# Altium footprint library aiskylab-14Connectors-03USBConnectors.PcbLib: 15 footprints
Each footprint in its own frame and in the unit in brackets; x right, y up, seen from the top. Pads: shape width x height; smd on the part's side, far side on the other; paste and mask are expansions set on the pad; w line width, h text height; cw(c..) or ccw(c..) is an arc to the next point about the centre after c.
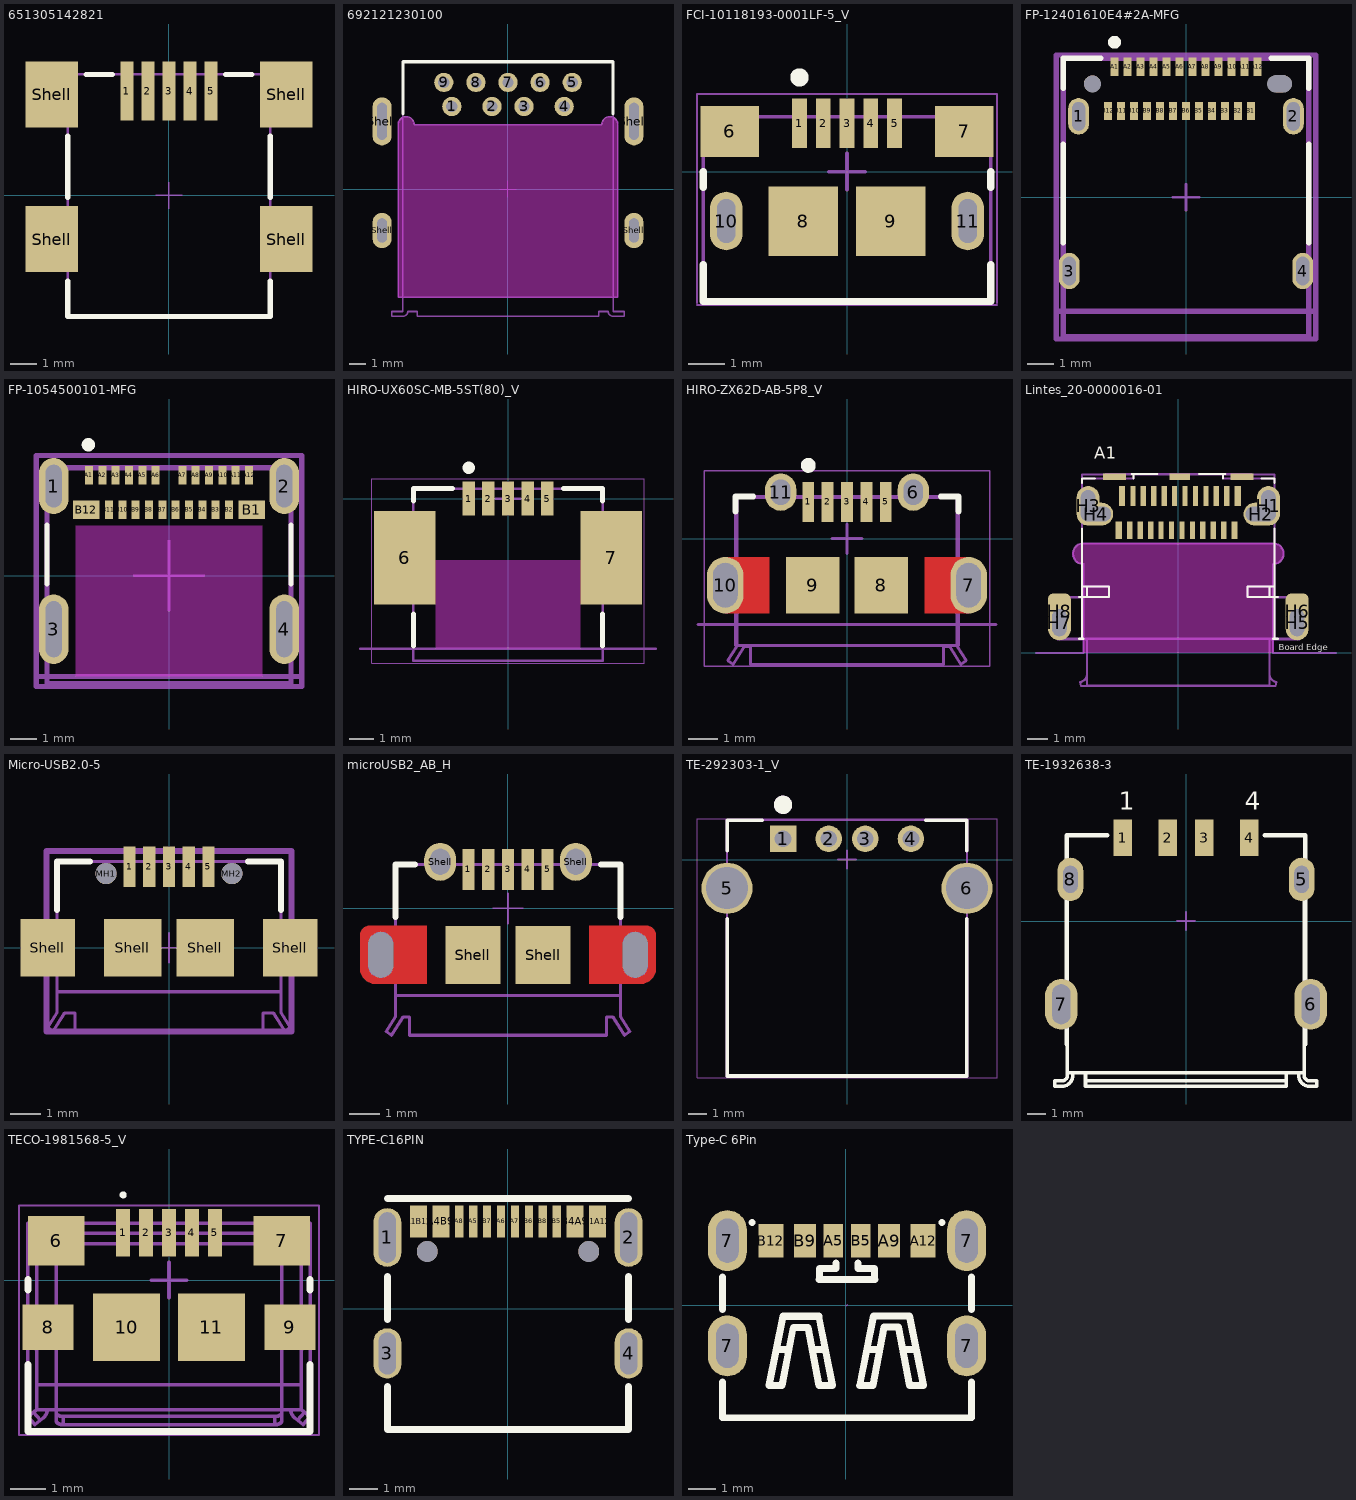
[diagram p0: the footprints below, top view; thin cyan lines are the x and y axes]

## 651305142821 [mm] "Mini USB 2.0 Type AB SMT Horizontal 5 Contacts"
height 4
pads (9):
  rect 0.5x2.25 smd: 1(-1.6,3.965) 2(-0.8,3.965) 3(0,3.965) 4(0.8,3.965) 5(1.6,3.965)
  rect 2x2.5 smd: Shell(-4.45,-1.66) Shell(-4.45,3.84) Shell(4.45,-1.66) Shell(4.45,3.84)
Top Overlay:
  lines w0.2: -3.85,-3.25 -3.85,-4.6 3.85,-4.6 3.85,-3.25 ; -3.85,-0.07 -3.85,2.25 ; -3.15,4.6 -2.15,4.6 ; 2.15,4.6 3.15,4.6 ; 3.85,-0.07 3.85,2.25
Top Designator:
  text ".Designator" at -7.618,-0.262 h1.52
Top Assembly:
  lines w0.1: -3.85,-4.6 -3.85,4.6 3.85,4.6 3.85,-4.6 -3.85,-4.6
Top Component Center:
  lines w0.05: -0.5,0 0.5,0 ; 0,-0.5 0,0.5
Top Component Outline:
  lines w0.1: -3.85,-4.6 -3.85,4.6 3.85,4.6 3.85,-4.6 -3.85,-4.6
3D body "651305142821.stp": height 4.1, standoff 0, extent -4.95,-4.6 4.95,4.8

## 692121230100 [mm] "USB 3.0 Type A Horizontal with Offset 1.04mm"
height 3.9
pads (13):
  round 1.2 hole 0.7: 1(-3.5,5.145) 2(-1,5.145) 3(1,5.145) 4(3.5,5.145) 5(4,6.645) 6(2,6.645) 7(0,6.645) 8(-2,6.645) 9(-4,6.645)
  oval 1.2x2.2 hole 0.6 slot 1.5 at 90 deg: Shell(-7.85,-2.585) Shell(7.85,-2.585)
  oval 1.2x3 hole 0.6 slot 2.3 at 90 deg: Shell(-7.85,4.215) Shell(7.85,4.215)
Top Overlay:
  lines w0.2: -6.55,4.685 -6.55,7.935 6.55,7.935 6.55,4.685
Keep-Out Layer:
  board cut-out: -6.85,-6.755 6.85,-6.755 6.85,4.015 6.85,4.115 6.774,4.298 6.633,4.439 6.449,4.515 6.251,4.515 6.067,4.439 5.926,4.298 5.85,4.115 5.85,4.015 -5.85,4.015 -5.85,4.115 -5.926,4.298 -6.067,4.439 -6.251,4.515 -6.449,4.515 -6.633,4.439 -6.774,4.298 -6.85,4.115 -6.85,4.015
Board:
  text "PCB Cutout Area" at -4.4,-1.3 h0.81
Top Assembly:
  lines w0.1: -7.25,-7.935 -6.56,-7.935 ccw(c-6.55,-7.635) -6.25,-7.635 -5.65,-7.635 -5.65,-7.935 5.65,-7.935 5.65,-7.635 6.25,-7.635 ccw(c6.55,-7.635) 6.56,-7.935 7.25,-7.935 7.25,-7.635 6.55,-7.635 6.55,7.935 -6.55,7.935 -6.55,-7.635 -7.25,-7.635 -7.25,-7.935 ; -6.85,-6.755 6.85,-6.755 6.85,4.015 ccw(c6.35,4.015) 5.85,4.015 -5.85,4.015 ccw(c-6.35,4.015) -6.85,4.015 -6.85,-6.755
Top Component Center:
  lines w0.05: -0.5,0 0.5,0 ; 0,-0.5 0,0.5
3D body "692121230100.stp": height 4.63, standoff -2.49, extent -8,-7.935 8,7.935

## FCI-10118193-0001LF-5_V [mm] "Micro, USB-B, 5-Leads, Body 7.86x5.05mm, Pitch 0.65 mm"
pads (11):
  rect 0.4x1.35 smd: 1(-1.3,1.325) 2(-0.65,1.325) 3(0,1.325) 4(0.65,1.325) 5(1.3,1.325)
  rect 1.6x1.4 smd: 6(-3.2,1.1) 7(3.2,1.1)
  rect 1.9x1.9 smd: 8(-1.2,-1.35) 9(1.2,-1.35)
  oval 0.9x1.6 hole 0.5 slot 1.2 at 90 deg: 10(-3.3,-1.35) 11(3.3,-1.35)
Top Overlay:
  circle w0.25: c-1.3,2.575 r0.125
  lines w0.2: -3.93,-2.537 -3.93,-3.55 3.93,-3.55 3.93,-2.537 ; -3.93,-0.428 -3.93,0 ; 3.93,-0.428 3.93,0
Top Designator:
  text ".Designator" at -7.618,-1.176 h1.52
Top Assembly:
  lines w0.1: -3.93,-3.55 3.93,-3.55 3.93,1.5 -3.93,1.5 -3.93,-3.55
Top Component Center:
  lines w0.1: -0.5,0 0.5,0 ; 0,-0.5 0,0.5
Bottom 3D Body:
  lines w0.05: -4.1,-3.65 4.1,-3.65 ; -4.1,-3.6 -4.1,2.125 4.1,2.125 4.1,-3.6
3D body "10118193-0001lfc.stp": height 2.83, standoff -0.77, extent -3.928,-4.16 3.929,1.5

## FP-12401610E4#2A-MFG [mm]
pads (30):
  rrect100% 0.8x1.4 hole 1.1 slot 0.5 at 0 deg paste-1000 mask+0: 1(-4.13,3.115) 2(4.13,3.115) 3(-4.49,-2.835) 4(4.49,-2.835)
  rect 0.3x0.7 smd paste+0 mask+0: A1(-2.75,5.025) A2(-2.25,5.025) A3(-1.75,5.025) A4(-1.25,5.025) A5(-0.75,5.025) A6(-0.25,5.025) A7(0.25,5.025) A8(0.75,5.025) A9(1.25,5.025) A10(1.75,5.025) A11(2.25,5.025) A12(2.75,5.025) B1(2.5,3.325) B2(2,3.325) B3(1.5,3.325) B4(1,3.325) B5(0.5,3.325) B6(0,3.325) B7(-0.5,3.325) B8(-1,3.325) B9(-1.5,3.325) B10(-2,3.325) B11(-2.5,3.325) B12(-3,3.325)
  round 0.65 hole 0.65 unplated paste-1000 mask+0: ""(-3.6,4.365)
  rrect100% 0.95x0.65 hole 0.65 slot 0.95 at 0 deg unplated paste-1000 mask+0: ""(3.6,4.365)
Top Overlay:
  circle w0.25: c-2.75,5.965 r0.125
  lines w0.2: -4.725,-1.76 -4.725,2.04 ; -4.725,4.19 -4.725,5.35 -3.275,5.35 ; 3.275,5.35 4.725,5.35 4.725,4.19 ; 4.725,-1.76 4.725,2.04
Top Designator:
  text ".Designator" at 0,0.012 h1
Top Assembly:
  lines w0.2: -4.99,-5.45 -4.99,5.475 4.99,5.475 4.99,-5.45 -4.99,-5.45
Top Component Center:
  lines w0.1: -0.5,0 0.5,0 ; 0,-0.5 0,0.5
Top Component Outline:
  lines w0.2: -4.99,-4.385 4.99,-4.385 ; -4.725,-5.35 -4.725,5.35 4.725,5.35 4.725,-5.35 -4.725,-5.35
Top 3D Body:
  lines w0.2: -4.99,-5.45 -4.99,5.475 4.99,5.475 4.99,-5.45 -4.99,-5.45
3D body "Conn_Amphenol_12401610E4#2A_eec.STEP": height 3.43, standoff -1.3, extent -4.6,-5.225 4.6,5.325

## FP-1054500101-MFG [mm]
pads (28):
  rrect100% 1.1x2.1 hole 1.6 slot 0.6 at 0 deg paste-1000 mask+0: 1(-4.32,3.36) 2(4.32,3.36)
  rrect100% 1.1x2.6 hole 2.1 slot 0.6 at 0 deg paste-1000 mask+0: 3(-4.32,-2) 4(4.32,-2)
  rect 0.3x0.7 smd paste+0 mask+0: A1(-3,3.77) A2(-2.5,3.77) A3(-2,3.77) A4(-1.5,3.77) A5(-1,3.77) A6(-0.5,3.77) A7(0.5,3.77) A8(1,3.77) A9(1.5,3.77) A10(2,3.77) A11(2.5,3.77) A12(3,3.77) B2(2.25,2.47) B3(1.75,2.47) B4(1.25,2.47) B5(0.75,2.47) B6(0.25,2.47) B7(-0.25,2.47) B8(-0.75,2.47) B9(-1.25,2.47) B10(-1.75,2.47) B11(-2.25,2.47)
  rect 1x0.7 smd paste+0 mask+0: B1(3.1,2.47) B12(-3.1,2.47)
Top Overlay:
  circle w0.25: c-3.02,4.91 r0.125
  lines w0.2: -4.57,-0.3 -4.57,1.9 ; 4.57,-0.3 4.57,1.9
Keep-Out Layer:
  rectangle: -3.5,-3.77 3.5,1.88
Top Assembly:
  lines w0.2: -4.97,-4.15 4.97,-4.15 4.97,4.51 -4.97,4.51 -4.97,-4.15
  text ".Designator" at 0,0.368 h1
Top Component Center:
  lines w0.1: -1.299,0 1.299,0 ; 0,-1.299 0,1.299
Top Component Outline:
  lines w0.2: -4.97,-3.77 4.97,-3.77 ; -4.97,-4.15 4.97,-4.15 4.97,4.51 -4.97,4.51 -4.97,-4.15 ; -4.57,-4.05 4.57,-4.05 4.57,4.05 -4.57,4.05 -4.57,-4.05

## HIRO-UX60SC-MB-5ST(80)_V [mm] "SMD, 5-Leads, Body 7.7x7mm, Pitch 0.8mm"
height 3.95
pads (7):
  rect 0.5x1.4 smd: 1(-1.6,0) 2(-0.8,0) 3(0,0) 4(0.8,0) 5(1.6,0)
  rect 2.5x3.8 smd: 6(-4.2,-2.4) 7(4.2,-2.4)
Top Layer keep-out:
  rectangle: -2.95,-6.1 2.95,-2.5
Top Overlay:
  circle w0.25: c-1.6,1.25 r0.125
  lines w0.2: -3.85,-6 -3.85,-4.7 ; -3.85,-0.1 -3.85,0.4 -2.25,0.4 ; 2.25,0.4 3.85,0.4 3.85,-0.1 ; 3.85,-6 3.85,-4.7
Board:
  lines w0.1: -6,-6.1 6,-6.1
  text "PCB EDGE" at -8.636,-6.096 h0.3
Top Designator:
  text ".Designator" at -8.961,-3.12 h1.52
Top Assembly:
  lines w0.1: -3.85,-6.6 -3.85,0.4 3.85,0.4 3.85,-6.6 -3.85,-6.6
Top Component Center:
  lines w0.1: -0.5,0 0.5,0 ; 0,-0.5 0,0.5
Top Component Outline:
  lines w0.05: -5.55,-6.7 -5.55,0.8 5.55,0.8 5.55,-6.7 -5.55,-6.7
3D body "UX60SC-MB-5ST.stp": height 3.95, standoff 0, extent -4.9,-6.619 4.9,0.381

## HIRO-ZX62D-AB-5P8_V [mm] "USB Micro-AB Connector, 5-Leads, Pitch 0.65mm"
height 2.8
pads (11):
  rect 0.4x1.35 smd: 1(-1.3,1.238) 2(-0.65,1.238) 3(0,1.238) 4(0.65,1.238) 5(1.3,1.238)
  oval 1.05x1.25 hole 0.65 slot 0.85 at 90 deg: 6(2.225,1.563) 11(-2.225,1.563)
  oval 1.225x1.9 hole 0.825 slot 1.5 at 90 deg: 7(4.088,-1.562) 10(-4.088,-1.562)
  rect 1.8x1.9 smd: 8(1.15,-1.562) 9(-1.15,-1.562)
Top Layer:
  rectangle: 2.6,-2.512 4.088,-0.612
  rectangle: -4.088,-2.512 -2.6,-0.612
Top Overlay:
  circle w0.25: c-1.3,2.463 r0.125
  lines w0.2: -3.75,0.91 -3.75,1.412 -3.149,1.412 ; 3.149,1.412 3.75,1.412 3.75,0.91
Board:
  lines w0.1: -5,-2.887 5,-2.887
  text "board edge" at -7.112,-2.921 h0.2
Top Designator:
  text ".Designator" at -8.674,-1.307 h1.52
Top Assembly:
  lines w0.1: -4,-4.093 -3.825,-4.218 -3.45,-3.618 -3.24,-3.618 -3.24,-4.218 3.24,-4.218 3.24,-3.618 3.45,-3.618 3.825,-4.218 4,-4.093 3.7,-3.618 3.7,1.392 -3.7,1.392 -3.7,-3.618 -4,-4.093
Top Component Center:
  lines w0.1: -0.5,0 0.5,0 ; 0,-0.5 0,0.5
Top Component Outline:
  lines w0.05: -4.8,2.288 4.8,2.288 4.8,-4.286 -4.8,-4.286 -4.8,2.288
  lines w0.1: -0.5,0 0.5,0 ; 0,-0.5 0,0.5
Top 3D Body:
  lines w0.1: -3.75,-3.588 -3.75,1.413 3.75,1.413 3.75,-3.587 -3.75,-3.588
3D body: height 0.25, standoff 0, extent -0.8,0.542 -0.493,1.685
3D body: height 0.25, standoff 0, extent -1.45,0.542 -1.143,1.685
3D body: height 0.25, standoff 0, extent 1.15,0.542 1.457,1.685
3D body: height 0.25, standoff 0, extent 0.5,0.542 0.807,1.685
3D body: height 1.79, standoff 0.71, extent -4,-4.187 -3.5,-3.586
3D body: height 1.79, standoff 0.71, extent 3.5,-4.187 4,-3.586
3D body: height 0.55, standoff -0.6, extent -4.373,-1.916 -3.603,-1.065
3D body: height 0.55, standoff -0.6, extent 3.603,-1.916 4.373,-1.066
3D body: height 2.5, standoff 2.25, extent -0.967,1.262 0.972,1.862
3D body: height 0.25, standoff 0, extent -0.15,0.542 0.157,1.685
3D body: height 2.25, standoff -0.85, extent -2.379,1.263 2.387,1.863
3D body: height 2.5, standoff -0.01, extent -3.754,0.213 3.757,1.413
3D body: height 0.25, standoff 0, extent -3.25,0.212 3.25,0.543
3D body: height 0.25, standoff -0.32, extent -3.05,-4.186 3.05,-3.586
3D body: height 2.83, standoff 2.25, extent -3.05,-4.186 3.05,-3.586
3D body: height 2.51, standoff -0.01, extent -3.756,-3.588 3.757,0.212

## Lintes_20-0000016-01 [mm]
pads (35):
  rect 1.1x0.3 smd: 1(3.05,8.44) 3(-3.05,8.44)
  rect 1x0.3 smd: 2(0.07,8.44)
  rect 0.3x0.95 smd: A1(-2.7,7.525) A12(2.85,7.525)
  rect 0.25x0.95 smd: A2(-2.175,7.525) A3(-1.675,7.525) A4(-1.175,7.525) A5(-0.675,7.525) A6(-0.175,7.525) A7(0.325,7.525) A8(0.825,7.525) A9(1.325,7.525) A10(1.825,7.525) A11(2.325,7.525)
  rect 0.3x0.85 smd: B1(2.7,5.875) B12(-2.85,5.875)
  rect 0.25x0.85 smd: B2(2.175,5.875) B3(1.675,5.875) B4(1.175,5.875) B5(0.675,5.875) B6(0.175,5.875) B7(-0.325,5.875) B8(-0.825,5.875) B9(-1.325,5.875) B10(-1.825,5.875) B11(-2.325,5.875)
  oval 1.1x1.9 hole 0.7 slot 1.5 at 90 deg: H1(4.323,7.05) H3(-4.323,7.05)
  oval 1.65x1.1 hole 0.7 slot 1.45 at 0 deg: H2(3.949,6.65) H4(-3.949,6.65)
  oval 1.1x1.7 hole 0.7 slot 1.3 at 90 deg: H5(5.7,1.45) H7(-5.7,1.45)
  rrect50% 1.1x1.7 all layers, no hole: H6(5.7,2) H8(-5.7,2)
Top Overlay:
  lines w0.1: -4.77,0.675 -4.62,0.675 ; -4.77,2.675 -4.62,2.675 ; -4.62,2.65 -4.62,5.95 ; -4.62,3.175 -3.32,3.175 -3.32,2.675 -4.62,2.675 ; -4.62,8.15 -4.62,8.365 -4,8.365 ; -4.55,0.675 -4.62,0.675 ; -4.37,2.675 -4.37,3.175 ; -2.252,8.575 -2.14,8.575 ; -2.14,8.365 -2.14,8.575 ; -1,8.575 -2.14,8.575 ; 1,8.575 2.14,8.575 ; 2.14,8.365 2.14,8.575 ; 2.252,8.575 2.14,8.575 ; 4,8.365 4.62,8.365 4.62,8.15 ; 4.37,2.675 4.37,3.175 ; 4.55,0.675 4.62,0.675 ; 4.62,2.65 4.62,5.95 ; 4.62,3.175 3.32,3.175 3.32,2.675 4.62,2.675 ; 4.77,0.675 4.62,0.675 ; 4.77,2.675 4.62,2.675 ; -4.62,0.675 -4.62,2.675 ; 4.62,0.675 4.62,2.675
  text ".Designator" at -2.225,3.95 h1.02
  text "Board Edge" at 4.824,0.028 h0.5
  text "A1" at -4.039,9.119 h1
Keep-Out Layer:
  board cut-out: -4.55,0 -4.55,4.25 -4.649,4.25 -4.833,4.326 -4.974,4.467 -5.05,4.651 -5.05,4.849 -4.974,5.033 -4.833,5.174 -4.649,5.25 -4.55,5.25 4.55,5.25 4.649,5.25 4.833,5.174 4.974,5.033 5.05,4.849 5.05,4.651 4.974,4.467 4.833,4.326 4.649,4.25 4.55,4.25 4.55,0
Board:
  lines w0.1: -6.823,0 -4.55,0 -4.55,4.25 cw(c-4.55,4.75) -4.55,5.25 4.55,5.25 cw(c4.55,4.75) 4.55,4.25 4.55,0 7.562,0
Top Assembly:
  lines w0.1: -4.37,0.675 -4.37,-1.573 -3.17,-1.573 3.17,-1.573 4.37,-1.573 4.37,0.675 ; -4.37,2.675 -4.37,3.175 ; -3.374,8.365 -3.374,8.375 -3.461,8.375 -3.5,8.375 -3.5,8.575 -3.461,8.575 -3.124,8.575 -3.051,8.575 -2.252,8.575 -2.14,8.575 ; 3.374,8.365 3.374,8.375 3.461,8.375 3.5,8.375 3.5,8.575 3.461,8.575 3.124,8.575 3.051,8.575 2.252,8.575 2.14,8.575 ; 4.37,2.675 4.37,3.175 ; 4.62,2.65 4.62,8.55 0,8.55 -4.62,8.55 -4.62,2.65 -5.8,2.65 -5.8,0.65 -4.37,0.65 -4.37,-1.008 cw(c-4.77,-1.008) -4.703,-1.403 -4.67,-1.6 -3.17,-1.6 0,-1.6 3.17,-1.6 4.67,-1.6 4.703,-1.403 cw(c4.77,-1.008) 4.37,-1.008 4.37,0.65 5.8,0.65 ; 4.636,2.65 5.816,2.65 5.816,0.65 ; -4.62,0.675 -3.32,0.675 3.32,0.675 4.62,0.675 ; -4.62,0.675 -4.62,2.675 ; -4.62,0.675 -4.77,0.675 -5.5,0.675 -5.8,0.675 -5.8,2.675 -5.5,2.675 -4.77,2.675 -4.62,2.675 ; -4.62,2.675 -3.32,2.675 -3.32,3.175 -4.62,3.175 -4.62,8.365 -3.32,8.365 -2.14,8.365 -2.14,8.575 ; -2.14,8.575 2.14,8.575 ; 2.14,8.575 2.14,8.365 3.32,8.365 4.62,8.365 4.62,3.175 3.32,3.175 3.32,2.675 4.62,2.675 ; 4.62,0.675 4.62,2.675 ; 4.62,0.675 4.77,0.675 5.5,0.675 5.8,0.675 5.8,2.675 5.5,2.675 4.77,2.675 4.62,2.675
Top 3D Body:
  lines w0.1: -4.37,0.675 -4.37,-1.573 -3.17,-1.573 3.17,-1.573 4.37,-1.573 4.37,0.675 ; -4.37,2.675 -4.37,3.175 ; -3.374,8.365 -3.374,8.375 -3.461,8.375 -3.5,8.375 -3.5,8.575 -3.461,8.575 -3.124,8.575 -3.051,8.575 -2.252,8.575 -2.14,8.575 ; 3.374,8.365 3.374,8.375 3.461,8.375 3.5,8.375 3.5,8.575 3.461,8.575 3.124,8.575 3.051,8.575 2.252,8.575 2.14,8.575 ; 4.37,2.675 4.37,3.175 ; 4.62,2.65 4.62,8.55 0,8.55 -4.62,8.55 -4.62,2.65 -5.8,2.65 -5.8,0.65 -4.37,0.65 -4.37,-1.008 cw(c-4.77,-1.008) -4.703,-1.403 -4.67,-1.6 -3.17,-1.6 0,-1.6 3.17,-1.6 4.67,-1.6 4.703,-1.403 cw(c4.77,-1.008) 4.37,-1.008 4.37,0.65 5.8,0.65 ; 4.636,2.65 5.816,2.65 5.816,0.65 ; -4.62,0.675 -4.77,0.675 -5.5,0.675 -5.8,0.675 -5.8,2.675 -5.5,2.675 -4.77,2.675 -4.62,2.675 ; -4.62,0.675 -4.62,2.675 ; -4.62,0.675 -3.32,0.675 3.32,0.675 4.62,0.675 ; -4.62,2.675 -3.32,2.675 -3.32,3.175 -4.62,3.175 -4.62,8.365 -3.32,8.365 -2.14,8.365 -2.14,8.575 ; -2.14,8.575 2.14,8.575 ; 2.14,8.575 2.14,8.365 3.32,8.365 4.62,8.365 4.62,3.175 3.32,3.175 3.32,2.675 4.62,2.675 ; 4.62,0.675 4.77,0.675 5.5,0.675 5.8,0.675 5.8,2.675 5.5,2.675 4.77,2.675 4.62,2.675 ; 4.62,0.675 4.62,2.675
3D body "Lintes_20-0000016-01.stp": height 2.44, standoff -0.98, extent -5.8,-1.563 5.8,8.585

## Micro-USB2.0-5 [mm] "Micro USB 2.0 SMT Type B Horizontal 5 Contacts"
height 3
pads (11):
  rect 0.4x1.35 smd: 1(-1.3,2.675) 2(-0.65,2.675) 3(0,2.675) 4(0.65,2.675) 5(1.3,2.675)
  round 0.7 hole 0.7 unplated: MH1(-2.075,2.45) MH2(2.075,2.45)
  rect 1.8x1.9 smd: Shell(-4,0) Shell(4,0)
  rect 1.9x1.9 smd: Shell(-1.2,0) Shell(1.2,0)
Top Overlay:
  lines w0.2: -3.7,1.25 -3.7,2.85 -2.6,2.85 ; 2.6,2.85 3.7,2.85 3.7,1.25
Board:
  lines w0.1: -3.7,-1.45 3.7,-1.45
  text "PCB Edge" at -1.2,-2.1 h0.41
Top Designator:
  text ".Designator" at -7.618,-0.216 h1.52
Top Assembly:
  lines w0.1: -1.425,2.85 -1.425,3.15 -1.175,3.15 -1.175,2.85 ; -0.775,2.85 -0.775,3.15 -0.525,3.15 -0.525,2.85 ; -0.125,2.85 -0.125,3.15 0.125,3.15 0.125,2.85 ; 0.525,2.85 0.525,3.15 0.775,3.15 0.775,2.85 ; 1.175,2.85 1.175,3.15 1.425,3.15 1.425,2.85 ; -4,-2.625 -3.7,-2.15 -3.7,2.85 3.7,2.85 3.7,-2.15 4,-2.625 3.825,-2.75 3.45,-2.15 3.1,-2.15 3.1,-2.75 -3.1,-2.75 -3.1,-2.15 -3.45,-2.15 -3.825,-2.75 -4,-2.625
Top Component Center:
  lines w0.05: -0.5,0 0.5,0 ; 0,-0.5 0,0.5
Top Component Outline:
  lines w0.2: -4.039,-2.769 -4.039,3.2 4.039,3.2 4.039,-2.769 -4.039,-2.769
3D body "629105136821.stp": height 2.69, standoff -0.61, extent -4,-2.73 4,3.173

## microUSB2_AB_H [mm] "Micro USB 2.0 Type AB Horizontal"
height 3
pads (11):
  rect 0.4x1.35 smd: 1(-1.3,1.278) 2(-0.65,1.278) 3(0,1.278) 4(0.65,1.278) 5(1.3,1.278)
  round 0 / inner oval 1.4x2.1 / far side oval 1.4x2.1 hole 0.825 slot 1.5 at 90 deg mask+0.102: Shell(-4.175,-1.528)
  oval 1.05x1.25 hole 0.65 slot 0.85 at 90 deg: Shell(-2.225,1.528) Shell(2.225,1.528)
  rect 1.8x1.9 smd: Shell(-1.15,-1.528) Shell(1.15,-1.528)
  round 0 / inner round 0 / far side oval 1.4x2.1 hole 0.825 slot 1.5 at 90 deg mask+0.102: Shell(4.175,-1.528)
Top Layer:
  region: -4.352,-2.478 -4.452,-2.478 -4.636,-2.401 -4.776,-2.261 -4.852,-2.077 -4.852,-1.978 -4.852,-0.877 -4.852,-0.818 -4.807,-0.708 -4.722,-0.623 -4.612,-0.577 -4.552,-0.577 -2.667,-0.577 -2.667,-2.478
  region: 4.353,-2.478 4.452,-2.478 4.636,-2.401 4.776,-2.261 4.853,-2.077 4.853,-1.978 4.853,-0.877 4.853,-0.818 4.807,-0.708 4.722,-0.623 4.612,-0.577 4.553,-0.577 2.668,-0.577 2.668,-2.478
Top Overlay:
  lines w0.2: -3.7,-0.278 -3.7,1.442 -3.05,1.442 ; 3.05,1.442 3.7,1.442 3.7,-0.278
Board:
  lines w0.1: -3.7,-2.857 3.7,-2.857
  text "PCB Edge" at -1.1,-3.528 h0.41
Top Designator:
  text ".Designator" at -7.618,-1.49 h1.52
Top Assembly:
  lines w0.1: -4,-4.042 -3.7,-3.568 -3.7,1.442 3.7,1.442 3.7,-3.568 4,-4.042 3.825,-4.167 3.45,-3.568 3.24,-3.568 3.24,-4.167 -3.24,-4.167 -3.24,-3.568 -3.45,-3.568 -3.825,-4.167 -4,-4.042
Top Component Center:
  lines w0.05: -0.5,0 0.5,0 ; 0,-0.5 0,0.5
Top Component Outline:
  lines w0.1: -4,-4.042 -3.7,-3.568 -3.7,1.442 3.7,1.442 3.7,-3.568 4,-4.042 3.825,-4.167 3.45,-3.568 3.24,-3.568 3.24,-4.167 -3.24,-4.167 -3.24,-3.568 -3.45,-3.568 -3.825,-4.167 -4,-4.042
3D body "629105150921.stp": height 2.76, standoff -0.52, extent -4.3,-4.167 4.3,1.702

## TE-292303-1_V [mm] "THD, 4-Leads, Body 13.13x14mm, Pitch 2.5mm"
height 7.01
pads (6):
  rect 1.45x1.45 hole 0.92: 1(-3.5,1.144)
  round 1.45 hole 0.92: 2(-1,1.144) 3(1,1.144) 4(3.5,1.144)
  round 2.8 hole 2.3: 5(-6.57,-1.566) 6(6.57,-1.566)
Top Overlay:
  circle w0.5: c-3.5,3.004 r0.25
  lines w0.2: -6.565,-3.25 -6.565,-11.846 6.565,-11.846 6.565,-3.25 ; -6.565,0.5 -6.565,2.154 -4.65,2.154 ; 4.33,2.154 6.565,2.154 6.565,0.5
Top Designator:
  text ".Designator" at -7.618,-4.741 h1.52
Top Assembly:
  circle w0.5: c-3.5,3.004 r0.25
  lines w0.2: -6.565,-3.25 -6.565,-11.846 6.565,-11.846 6.565,-3.25 ; -6.565,0.5 -6.565,2.154 -4.65,2.154 ; 4.33,2.154 6.565,2.154 6.565,0.5
Top Component Outline:
  lines w0.05: -8.216,-11.946 -8.216,2.254 8.216,2.254 8.216,-11.946 -8.216,-11.946
  lines w0.1: -0.5,0 0.5,0 ; 0,-0.5 0,0.5
Top 3D Body:
  lines w0.1: -6.565,-11.846 -6.565,2.154 6.565,2.154 6.565,-11.846 -6.565,-11.846
3D body "c-292303-1-e3-3d.stp": height 7.72, standoff -3.54, extent -8.115,-11.846 8.117,2.154

## TE-1932638-3 [mm]
pads (8):
  rect 1.016x2 smd mask+0.051: 1(-3.5,4.606) 2(-1,4.606) 3(1,4.606) 4(3.5,4.606)
  oval 1.422x2.4 hole 0.8 slot 1.5 at 90 deg mask+0: 5(6.4,2.304)
  oval 1.8x2.8 hole 1 slot 2.2 at 90 deg: 6(6.9,-4.606) 7(-6.9,-4.606)
  oval 1.44x2.4 hole 0.8 slot 1.5 at 90 deg: 8(-6.4,2.304)
Top Overlay:
  lines w0.2: -6.562,-8.391 6.538,-8.391 ; -6.562,1.456 -6.562,-0.591 -6.562,-8.541 cw(c-6.862,-8.541) -6.862,-8.841 -7.262,-8.841 -7.262,-9.141 -6.862,-9.141 ccw(c-6.862,-8.541) -6.262,-8.541 -6.262,-8.391 ; -5.562,-8.841 5.538,-8.841 ; -5.562,-8.391 -5.562,-9.141 5.538,-9.141 5.538,-8.391 ; 6.238,-8.391 6.238,-8.541 ccw(c6.838,-8.541) 6.838,-9.141 7.238,-9.141 7.238,-8.841 6.838,-8.841 cw(c6.838,-8.541) 6.538,-8.541 6.538,-0.591 6.538,1.456
  lines w0.254: -6.604,-6.822 -6.604,4.748 -4.369,4.748 ; 4.369,4.748 6.604,4.748 6.604,-6.822
  text "4" at 3.262,6.155 h1
  text "1" at -3.708,6.155 h1
Top Designator:
  text ".Designator" at -7.616,-1.459 h1.52
Top Component Outline:
  lines w0.1: -0.5,0 0.5,0 ; 0,-0.5 0,0.5
3D body "c-292303-1-e3-3d.stp": height 7.72, standoff -3.54, extent -8.115,-9.257 8.117,4.743

## TECO-1981568-5_V [mm] "SMD, 5-Leads, Body 8x5.9mm, Pitch 0.65mm"
height 3
pads (11):
  rect 0.4x1.35 smd: 1(-1.3,1.338) 2(-0.65,1.338) 3(0,1.338) 4(0.65,1.338) 5(1.3,1.338)
  rect 1.6x1.4 smd: 6(-3.2,1.113) 7(3.2,1.113)
  rect 1.45x1.3 smd: 8(-3.425,-1.337) 9(3.425,-1.337)
  rect 1.9x1.9 smd: 10(-1.2,-1.337) 11(1.2,-1.337)
Top Overlay:
  circle w0.1: c-1.3,2.412 r0.05
  lines w0.2: -4,-2.387 -4,-4.287 4,-4.287 4,-2.387 ; -4,-0.287 -4,0.013 ; 4,-0.287 4,0.013
Board:
  lines w0.1: -3.7,-2.972 3.7,-2.972
  text "PCB Edge" at -1.1,-3.642 h0.41
Top Designator:
  text ".Designator" at -7.618,-1.458 h1.52
Top Assembly:
  drawing of 439 lines, arcs and shapes, not listed
Top Component Center:
  lines w0.1: -0.5,0 0.5,0 ; 0,-0.5 0,0.5
Top Component Outline:
  lines w0.05: -4.25,-4.387 -4.25,2.113 4.25,2.113 4.25,-4.387 -4.25,-4.387
Top 3D Body:
  lines w0.1: -4,-4.287 -4,1.613 4,1.613 4,-4.287 -4,-4.287
3D body "473460001.stp": height 2.69, standoff -0.25, extent -3.99,-4.092 3.99,1.338

## TYPE-C16PIN [mm]
pads (18):
  oval 1x2.099 hole 0.61 slot 1.8 at 90 deg: 1(-4.307,2.55) 2(4.333,2.55)
  oval 1x1.799 hole 0.61 slot 1.5 at 90 deg: 3(-4.307,-1.6) 4(4.333,-1.6)
  rect 0.6x1.15 smd: A1B12(-3.187,3.125) A4B9(-2.387,3.125) B1A12(3.213,3.125) B4A9(2.413,3.125)
  rect 0.3x1.15 smd: A5(-1.237,3.125) A6(-0.237,3.125) A7(0.263,3.125) A8(-1.737,3.125) B5(1.763,3.125) B6(0.763,3.125) B7(-0.737,3.125) B8(1.263,3.125)
  round 0.75 hole 0.75 unplated: ""(-2.877,2.05) ""(2.903,2.05)
Top Overlay:
  lines w0.254: -4.305,-4.318 -4.305,-2.794 -4.305,-4.318 ; -4.305,-4.318 4.331,-4.318 ; -4.305,-4.318 4.331,-4.318 ; 4.331,-4.318 4.331,-2.794 4.331,-4.318 ; -4.305,-0.381 -4.305,1.143 -4.305,-0.381 ; -4.305,3.937 4.331,3.937 -4.305,3.937 ; 4.331,-0.381 4.331,1.143 4.331,-0.381
Top Designator:
  text ".Designator" at -6.704,-0.698 h1.52
3D body "User Library-USB-TYPE-C20.step": height 3.26, standoff -1.09, extent -4.47,-4.278 4.47,3.302

## Type-C 6Pin [mm]
pads (10):
  oval 1.4x2.2 hole 0.8 slot 1.6 at 90 deg: 7(-4.28,-1.466) 7(-4.28,2.334) 7(4.36,-1.466) 7(4.36,2.334)
  rect 0.7x1.2 smd: A5(-0.46,2.334) B5(0.54,2.334)
  rect 0.8x1.2 smd: A9(1.56,2.334) B9(-1.48,2.334)
  rect 0.9x1.2 smd: A12(2.79,2.334) B12(-2.71,2.334)
Top Overlay:
  lines w0.25: -4.46,-2.777 -4.46,-4.066 4.54,-4.066 4.54,-2.777 ; -4.46,-0.155 -4.46,1.023 ; -3.385,2.984 -3.384,2.984 ; -0.97,0.934 1.05,0.934 ; -0.96,0.934 -0.96,1.334 -0.36,1.334 -0.36,1.534 ; 0.44,1.534 0.44,1.334 1.04,1.334 1.04,0.934 ; 3.464,2.984 3.465,2.984 ; 4.54,-0.155 4.54,1.023
  lines w0.254: -2.478,-1.599 -2.079,-1.599 ; -1.179,-1.598 -0.779,-1.598 ; 0.799,-1.594 1.198,-1.594 ; 2.098,-1.593 2.498,-1.593 ; -2.778,-2.899 -2.303,-2.899 -1.901,-0.799 -1.373,-0.799 -0.974,-2.899 -0.479,-2.899 -0.979,-0.397 -2.28,-0.397 -2.778,-2.899 ; 0.499,-2.894 0.974,-2.894 1.375,-0.794 1.904,-0.794 2.303,-2.894 2.798,-2.894 2.297,-0.392 0.997,-0.392 0.499,-2.894
Bottom 3D Body:
  lines w0.003: 0.015,-0.019 0.065,0.032